# Altium footprint library SOP_254P_M.PcbLib: 3 footprints
Each footprint in its own frame and in the unit in brackets; x right, y up, seen from the top. Pads: shape width x height; smd on the part's side, far side on the other; paste and mask are expansions set on the pad; w line width, h text height; cw(c..) or ccw(c..) is an arc to the next point about the centre after c.
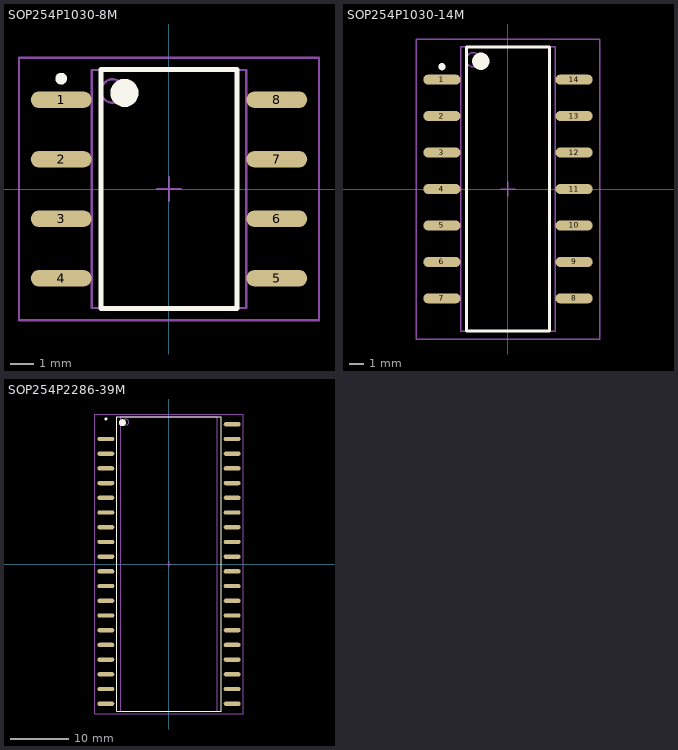
[diagram p0: the footprints below, top view; thin cyan lines are the x and y axes]

## SOP254P1030-8M [mm] "SOP, 8-Leads, Body 9.5x6.4mm, Pitch 2.54mm, IPC Low Density"
height 4.57
pads (8):
  oval 2.6x0.7 smd: 1(-4.6,3.81) 2(-4.6,1.27) 3(-4.6,-1.27) 4(-4.6,-3.81) 5(4.6,-3.81) 6(4.6,-1.27) 7(4.6,1.27) 8(4.6,3.81)
Top Overlay:
  circle w0.25: c-4.6,4.71 r0.125
  circle w0.6: c-1.9,4.1 r0.3
  lines w0.2: -2.9,-5.1 -2.9,5.1 2.9,5.1 2.9,-5.1 -2.9,-5.1
Mechanical 13:
  circle w0.1: c-2.4,4.18 r0.5
  lines w0.1: -3.3,-5.08 -3.3,5.08 3.3,5.08 3.3,-5.08 -3.3,-5.08
Mechanical 15:
  lines w0.1: -0.5,0 0.5,0 ; 0,-0.5 0,0.5 ; -6.4,-5.6 -6.4,5.6 6.4,5.6 6.4,-5.6 -6.4,-5.6
3D body: height 4.57, standoff 0, extent -3.3,-5.08 3.3,5.08

## SOP254P1030-14M [mm] "SOP, 14-Leads, Body 19.3x6.4mm, Pitch 2.54mm, IPC Low Density"
height 4.57
pads (14):
  oval 2.6x0.7 smd: 1(-4.6,7.62) 2(-4.6,5.08) 3(-4.6,2.54) 4(-4.6,0) 5(-4.6,-2.54) 6(-4.6,-5.08) 7(-4.6,-7.62) 8(4.6,-7.62) 9(4.6,-5.08) 10(4.6,-2.54) 11(4.6,0) 12(4.6,2.54) 13(4.6,5.08) 14(4.6,7.62)
Top Overlay:
  circle w0.25: c-4.6,8.52 r0.125
  circle w0.6: c-1.9,8.9 r0.3
  lines w0.2: -2.9,-9.9 -2.9,9.9 2.9,9.9 2.9,-9.9 -2.9,-9.9
Mechanical 13:
  circle w0.1: c-2.4,9.005 r0.5
  lines w0.1: -3.3,-9.905 -3.3,9.905 3.3,9.905 3.3,-9.905 -3.3,-9.905
Mechanical 15:
  lines w0.1: -0.5,0 0.5,0 ; 0,-0.5 0,0.5 ; -6.4,-10.45 -6.4,10.45 6.4,10.45 6.4,-10.45 -6.4,-10.45
3D body: height 4.57, standoff 0, extent -3.3,-9.905 3.3,9.905

## SOP254P2286-39M [mm] "SOP, 40-Leads, Body 50.8x16.7mm, Pitch 2.54mm, IPC Low Density"
height 9.53
pads (39):
  oval 2.9x0.75 smd: 2(-10.9,21.59) 3(-10.9,19.05) 4(-10.9,16.51) 5(-10.9,13.97) 6(-10.9,11.43) 7(-10.9,8.89) 8(-10.9,6.35) 9(-10.9,3.81) 10(-10.9,1.27) 11(-10.9,-1.27) 12(-10.9,-3.81) 13(-10.9,-6.35) 14(-10.9,-8.89) 15(-10.9,-11.43) 16(-10.9,-13.97) 17(-10.9,-16.51) 18(-10.9,-19.05) 19(-10.9,-21.59) 20(-10.9,-24.13) 21(10.9,-24.13) 22(10.9,-21.59) 23(10.9,-19.05) 24(10.9,-16.51) 25(10.9,-13.97) 26(10.9,-11.43) 27(10.9,-8.89) 28(10.9,-6.35) 29(10.9,-3.81) 30(10.9,-1.27) 31(10.9,1.27) 32(10.9,3.81) 33(10.9,6.35) 34(10.9,8.89) 35(10.9,11.43) 36(10.9,13.97) 37(10.9,16.51) 38(10.9,19.05) 39(10.9,21.59) 40(10.9,24.13)
Top Overlay:
  circle w0.25: c-10.9,25.055 r0.125
  circle w0.6: c-8.05,24.4 r0.3
  lines w0.2: -9.05,-25.4 -9.05,25.4 9.05,25.4 9.05,-25.4 -9.05,-25.4
Mechanical 13:
  circle w0.1: c-7.45,24.5 r0.5
  lines w0.1: -8.35,-25.4 -8.35,25.4 8.35,25.4 8.35,-25.4 -8.35,-25.4
Mechanical 15:
  lines w0.1: -0.5,0 0.5,0 ; 0,-0.5 0,0.5 ; -12.85,-25.9 -12.85,25.9 12.85,25.9 12.85,-25.9 -12.85,-25.9
3D body: height 9.53, standoff 0, extent -8.35,-25.4 8.35,25.4